# EAGLE library part FDS4897 (library library)
FDS4897C Dual N & P-Channel PowerTrench® MOSFET General Description These dual N- and P-Channel enhancement mode power field effect transistors are produced using Fairchild Semiconductor’s advanced PowerTrench process that has been especially tailored to minimize on-state resistance and yet maintain superior switching performance.
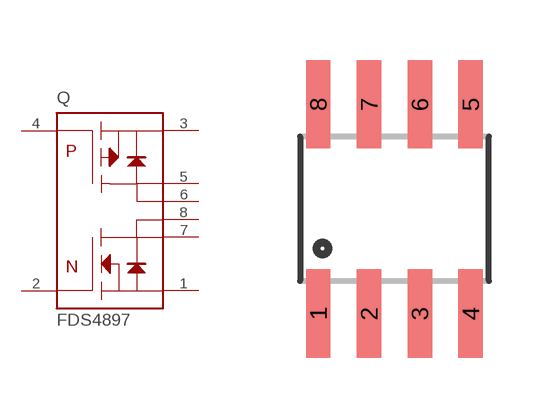
[diagram p1: symbol with the pads of SOIC8; footprint SOIC8]

Designator prefix Q

## FDS4897  [SOIC8]
1  SQ1
2  GQ1
3  SQ2
4  GQ2
5  DQ2-1
6  DQ2-2
7  DQ1-1
8  DQ1-2

## Footprint SOIC8 (pad centres in mm)
smd 0.61 x 2.21: 1 -1.905,-2.616; 2 -0.635,-2.616; 3 0.635,-2.616; 4 1.905,-2.616; 5 1.905,2.616; 6 0.635,2.616; 7 -0.635,2.616; 8 -1.905,2.616